# Altium footprint library lib_onsemi.PcbLib: 10 footprints
Each footprint in its own frame and in the unit in brackets; x right, y up, seen from the top. Pads: shape width x height; smd on the part's side, far side on the other; paste and mask are expansions set on the pad; w line width, h text height; cw(c..) or ccw(c..) is an arc to the next point about the centre after c.
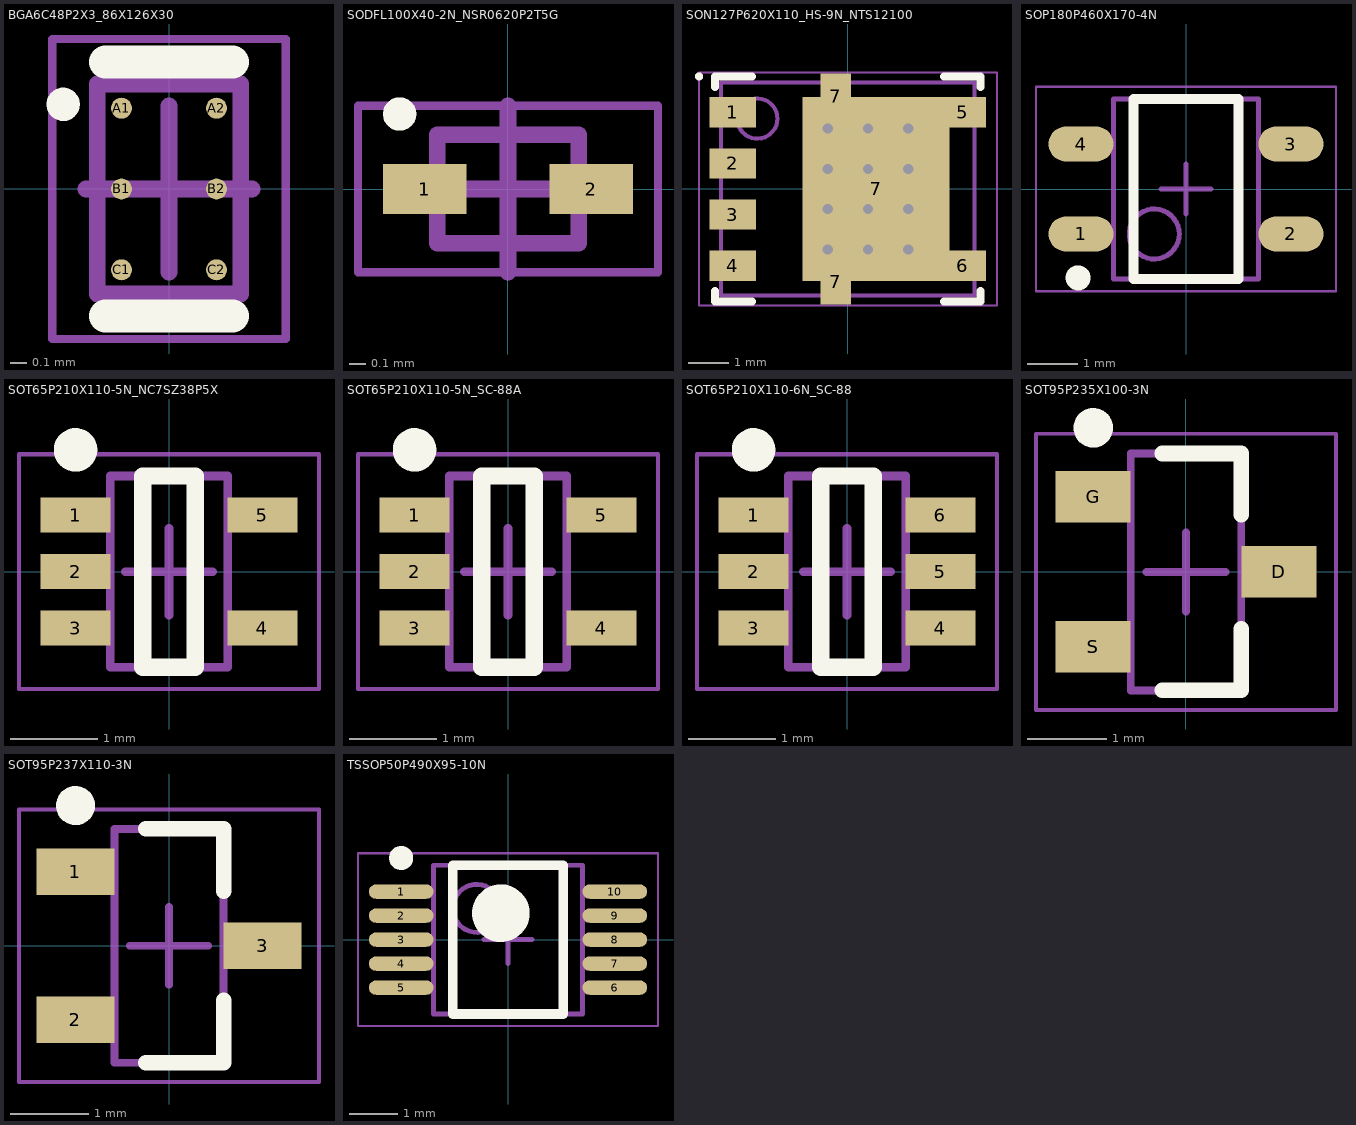
[diagram p0: the footprints below, top view; thin cyan lines are the x and y axes]

## BGA6C48P2X3_86X126X30 [mm] "BGA, 6-Leads, Body 0,86x1,26mmx0,30mm, Pitch 0,49mm"
height 0.3
pads (6):
  round 0.126 smd mask+0.05: A1(-0.285,0.485) A2(0.285,0.485) B1(-0.285,0) B2(0.285,0) C1(-0.285,-0.485) C2(0.285,-0.485)
Top Overlay:
  circle w0.1: c-0.635,0.508 r0.05
  lines w0.2: -0.381,-0.762 0.381,-0.762 ; -0.381,0.762 0.381,0.762
Mechanical 13:
  lines w0.1: -0.43,-0.63 -0.43,0.63 0.43,0.63 0.43,-0.63 -0.43,-0.63
Mechanical 15:
  lines w0.05: -0.7,-0.9 -0.7,0.9 0.7,0.9 0.7,-0.9 -0.7,-0.9
  lines w0.1: -0.5,0 0.5,0 ; 0,-0.5 0,0.5
3D body "BGA6C48P2X3_86X126X30.step": height 0.3, standoff 0, extent -0.43,-0.63 0.43,0.63

## SODFL100X40-2N_NSR0620P2T5G [mm] "SODFL, 2-Leads, Body 0.60x1.00mm, IPC Medium Density"
height 0.4
pads (2):
  rect 0.5x0.3 smd: 1(-0.5,0) 2(0.5,0)
Top Overlay:
  circle w0.1: c-0.65,0.45 r0.05
Mechanical 13:
  lines w0.1: -0.425,-0.325 -0.425,0.325 0.425,0.325 0.425,-0.325 -0.425,-0.325
Mechanical 15:
  lines w0.05: -0.9,-0.5 -0.9,0.5 0.9,0.5 0.9,-0.5 -0.9,-0.5
  lines w0.1: -0.5,0 0.5,0 ; 0,-0.5 0,0.5
3D body "SODFL100X40-2N_NSR0620P2T5G.step": height 0.4, standoff 0, extent -0.5,-0.325 0.5,0.325

## SON127P620X110_HS-9N_NTS12100 [mm] "SON, 8-Leads, Body 5.15x6.15mm, Pitch 1.27mm, Thermal Pad 3.98x1.50mm, IPC Medium Density"
height 1.1
pads (9):
  rect 1.15x0.75 smd: 1(-2.86,1.905) 2(-2.86,0.635) 3(-2.86,-0.635) 4(-2.86,-1.905) 5(2.86,1.905) 6(2.86,-1.905)
  rect 0.75x1.15 smd: 7(-0.3,-2.3) 7(-0.3,2.3)
  rect 3.65x4.56 smd: 7(0.7,0)
via -0.5,1.5 diameter 0.5 hole 0.254
via 0.5,1.5 diameter 0.5 hole 0.254
via -0.5,0.5 diameter 0.5 hole 0.254
via 0.5,0.5 diameter 0.5 hole 0.254
via -0.5,-0.5 diameter 0.5 hole 0.254
via 0.5,-0.5 diameter 0.5 hole 0.254
via -0.5,-1.5 diameter 0.5 hole 0.254
via 0.5,-1.5 diameter 0.5 hole 0.254
via 1.5,-1.5 diameter 0.5 hole 0.254
via 1.5,-0.5 diameter 0.5 hole 0.254
via 1.5,0.5 diameter 0.5 hole 0.254
via 1.5,1.5 diameter 0.5 hole 0.254
Top Overlay:
  circle w0.1: c-3.7,2.8 r0.05
  lines w0.2: -3.3,-2.53 -3.3,-2.8 -2.385,-2.8 ; -3.3,2.53 -3.3,2.8 -2.385,2.8 ; 2.385,-2.8 3.3,-2.8 3.3,-2.53 ; 2.385,2.8 3.3,2.8 3.3,2.53
Mechanical 13:
  circle w0.1: c-2.25,1.75 r0.5
  lines w0.1: -3.15,-2.65 -3.15,2.65 3.15,2.65 3.15,-2.65 -3.15,-2.65
Mechanical 15:
  lines w0.05: -3.705,-2.9 -3.705,2.9 3.705,2.9 3.705,-2.9 -3.705,-2.9
  lines w0.1: -0.5,0 0.5,0 ; 0,-0.5 0,0.5
3D body "SON127P620X110_HS-9N_NTS12100.step": height 1.1, standoff 0, extent -3.151,-2.65 3.151,2.65

## SOP180P460X170-4N [mm] "SOP, 4-Leads, Body 3,40x2,70mm, Pitch 1,80mm, IPC Medium Density"
height 1.7
pads (4):
  oval 1.3x0.7 smd: 1(-2.1,-0.9) 2(2.1,-0.9) 3(2.1,0.9) 4(-2.1,0.9)
Top Overlay:
  circle w0.25: c-2.159,-1.778 r0.125
  lines w0.2: -1.05,-1.8 -1.05,1.8 1.05,1.8 1.05,-1.8 -1.05,-1.8
Mechanical 13:
  circle w0.1: c-0.635,-0.9 r0.5
  lines w0.1: -1.45,-1.8 -1.45,1.8 1.45,1.8 1.45,-1.8 -1.45,-1.8
Mechanical 15:
  lines w0.05: -3,-2.05 -3,2.05 3,2.05 3,-2.05 -3,-2.05
  lines w0.1: -0.5,0 0.5,0 ; 0,-0.5 0,0.5
3D body "qre1113.stp": height 1.82, standoff -0.03, extent -2.4,-1.8 2.4,1.8

## SOT65P210X110-5N_NC7SZ38P5X [mm] "SOT23, 5-Leads, Body 2.00x2.10mm, Pitch 0.65mm, IPC Medium Density"
height 1.1
pads (5):
  rect 0.8x0.4 smd: 1(-1.075,0.65) 2(-1.075,0) 3(-1.075,-0.65) 4(1.075,-0.65) 5(1.075,0.65)
Top Overlay:
  circle w0.25: c-1.075,1.4 r0.125
  lines w0.2: -0.3,-1.1 -0.3,1.1 0.3,1.1 0.3,-1.1 -0.3,-1.1
Mechanical 13:
  lines w0.1: -0.675,-1.1 0.675,-1.1 0.675,1.1 -0.675,1.1 -0.675,-1.1
Mechanical 15:
  lines w0.05: -1.725,-1.35 1.725,-1.35 1.725,1.35 -1.725,1.35 -1.725,-1.35
  lines w0.1: -0.5,0 0.5,0 ; 0,-0.5 0,0.5
3D body "SOT65P210X110-5N_NC7SZ38P5X.step": height 1.1, standoff 0, extent -1.2,-1.1 1.2,1.1

## SOT65P210X110-5N_SC-88A [mm] "SOT23, 5-Leads, Body 2.00x2.10mm, Pitch 0.65mm, IPC Medium Density"
height 1.1
pads (5):
  rect 0.8x0.4 smd: 1(-1.075,0.65) 2(-1.075,0) 3(-1.075,-0.65) 4(1.075,-0.65) 5(1.075,0.65)
Top Overlay:
  circle w0.25: c-1.075,1.4 r0.125
  lines w0.2: -0.3,-1.1 -0.3,1.1 0.3,1.1 0.3,-1.1 -0.3,-1.1
Mechanical 13:
  lines w0.1: -0.675,-1.1 0.675,-1.1 0.675,1.1 -0.675,1.1 -0.675,-1.1
Mechanical 15:
  lines w0.05: -1.725,-1.35 1.725,-1.35 1.725,1.35 -1.725,1.35 -1.725,-1.35
  lines w0.1: -0.5,0 0.5,0 ; 0,-0.5 0,0.5
3D body "SOT65P210X110-5N_NC7SZ38P5X.step": height 1.1, standoff 0, extent -1.2,-1.1 1.2,1.1

## SOT65P210X110-6N_SC-88 [mm] "SOT23, 6-Leads, Body 2.00x2.10mm, Pitch 0.65mm, IPC Medium Density"
height 1.1
pads (6):
  rect 0.8x0.4 smd: 1(-1.075,0.65) 2(-1.075,0) 3(-1.075,-0.65) 4(1.075,-0.65) 5(1.075,0) 6(1.075,0.65)
Top Overlay:
  circle w0.25: c-1.075,1.4 r0.125
  lines w0.2: -0.3,-1.1 0.3,-1.1 0.3,1.1 -0.3,1.1 -0.3,-1.1
Mechanical 13:
  lines w0.1: -0.675,-1.1 -0.675,1.1 0.675,1.1 0.675,-1.1 -0.675,-1.1
Mechanical 15:
  lines w0.05: -1.725,-1.35 -1.725,1.35 1.725,1.35 1.725,-1.35 -1.725,-1.35
  lines w0.1: -0.5,0 0.5,0 ; 0,-0.5 0,0.5
3D body "SOT65P210X110-6N_SC-88.step": height 1.1, standoff 0, extent -1.1,-1.1 1.1,1.1

## SOT95P235X100-3N [mm] "SOT23, 3-Leads, Body 2.90x2.35mm, Pitch 0.95mm, IPC Medium Density"
height 1
pads (3):
  rect 0.95x0.65 smd: D(1.175,0) G(-1.175,0.95) S(-1.175,-0.95)
Top Overlay:
  circle w0.25: c-1.175,1.825 r0.125
  lines w0.2: -0.3,-1.5 0.7,-1.5 0.7,-0.725 ; -0.3,1.5 0.7,1.5 0.7,0.725
Mechanical 13:
  lines w0.1: -0.7,-1.5 0.7,-1.5 0.7,1.5 -0.7,1.5 -0.7,-1.5
Mechanical 15:
  lines w0.05: -1.9,-1.75 1.9,-1.75 1.9,1.75 -1.9,1.75 -1.9,-1.75
  lines w0.1: -0.5,0 0.5,0 ; 0,-0.5 0,0.5
3D body "SOT95P235X100-3N.step": height 1, standoff 0, extent -1.3,-1.5 1.3,1.5

## SOT95P237X110-3N [mm] "SOT23, 3-Leads, Body 2.90x2.37mm, Pitch 0.95mm, IPC Medium Density"
height 1.1
pads (3):
  rect 1x0.6 smd: 1(-1.2,0.95) 2(-1.2,-0.95) 3(1.2,0)
Top Overlay:
  circle w0.25: c-1.2,1.8 r0.125
  lines w0.2: -0.3,-1.5 0.7,-1.5 0.7,-0.7 ; -0.3,1.5 0.7,1.5 0.7,0.7
Mechanical 13:
  lines w0.1: -0.7,-1.5 0.7,-1.5 0.7,1.5 -0.7,1.5 -0.7,-1.5
Mechanical 15:
  lines w0.05: -1.925,-1.75 1.925,-1.75 1.925,1.75 -1.925,1.75 -1.925,-1.75
  lines w0.1: -0.5,0 0.5,0 ; 0,-0.5 0,0.5
3D body "SOT95P237X110-3N.step": height 1.1, standoff 0, extent -1.32,-1.5 1.32,1.5

## TSSOP50P490X95-10N [mm] "TSSOP, 10-Leads, Body 3.00x3.00mm, Pitch 0.50mm, IPC Medium Density"
height 0.95
pads (10):
  oval 1.35x0.3 smd: 1(-2.225,1) 2(-2.225,0.5) 3(-2.225,0) 4(-2.225,-0.5) 5(-2.225,-1) 6(2.225,-1) 7(2.225,-0.5) 8(2.225,0) 9(2.225,0.5) 10(2.225,1)
Top Overlay:
  circle w0.25: c-2.225,1.7 r0.125
  circle w0.6: c-0.15,0.55 r0.3
  lines w0.2: -1.15,-1.55 -1.15,1.55 1.15,1.55 1.15,-1.55 -1.15,-1.55
Mechanical 13:
  circle w0.1: c-0.65,0.65 r0.5
  lines w0.1: -1.55,-1.55 -1.55,1.55 1.55,1.55 1.55,-1.55 -1.55,-1.55
Mechanical 15:
  lines w0.05: -3.125,-1.8 -3.125,1.8 3.125,1.8 3.125,-1.8 -3.125,-1.8
  lines w0.1: -0.5,0 0.5,0 ; 0,-0.5 0,0.5
3D body "TSSOP50P490X95-10N.step": height 0.95, standoff 0, extent -2.45,-1.55 2.45,1.55